# Altium schematic symbol library SLE4442.SchLib: 1 symbol
Pins are listed as number, name and electrical type; pins without a type are passive.

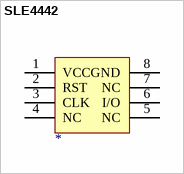
[diagram p0: symbol SLE4442]

## SLE4442
designator ?
pins: 1 VCC, 2 RST, 3 CLK, 4 NC, 5 NC, 6 I/O, 7 NC, 8 GND